# Altium schematic symbol library MAX1771.SchLib: 1 symbol
Pins are listed as number, name and electrical type; pins without a type are passive.

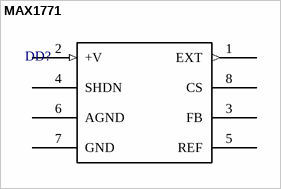
[diagram p0: symbol MAX1771]

## MAX1771
designator DD?  (value not drawn)
MAX1771
footprint MAX1771_DIP8 - duplicate
footprint Diode_bridge_DB1
pins: 1 EXT (out), 2 +V (in), 3 FB, 4 SHDN, 5 REF, 6 AGND, 7 GND, 8 CS